# EAGLE library part TPS2066DG4 (library SUCHAI)
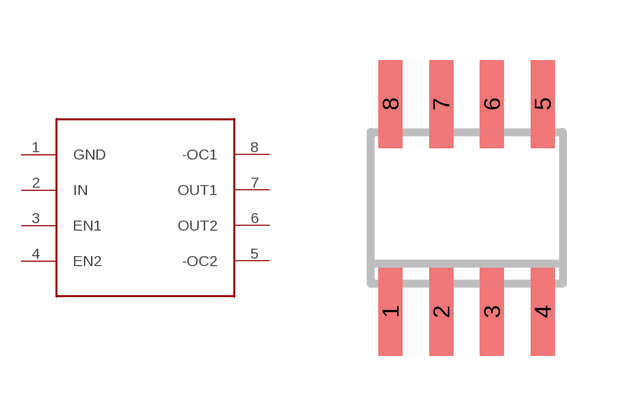
[diagram p8: symbol with the pads of SOIC8; footprint SOIC8]

Designator prefix -

## TPS2066DG4  [SOIC8]
1  GND
2  IN
3  EN1
4  EN2
5  -OC2
6  OUT2
7  OUT1
8  -OC1

## Footprint SOIC8 (pad centres in mm)
Small Outline IC SOIC8 Used in ST's M24C02 memory Note: Don't know if this pas pattern is also for SOIC8 Narrow
smd 0.6 x 2.2: 1 -1.905,-2.6; 2 -0.635,-2.6; 3 0.635,-2.6; 4 1.905,-2.6; 5 1.905,2.6; 6 0.635,2.6; 7 -0.635,2.6; 8 -1.905,2.6